# Altium footprint library Passive.PcbLib: 91 footprints (part 6 of 6)
Each footprint in its own frame and in the unit in brackets; x right, y up, seen from the top. Pads: shape width x height; smd on the part's side, far side on the other; paste and mask are expansions set on the pad; w line width, h text height; cw(c..) or ccw(c..) is an arc to the next point about the centre after c.
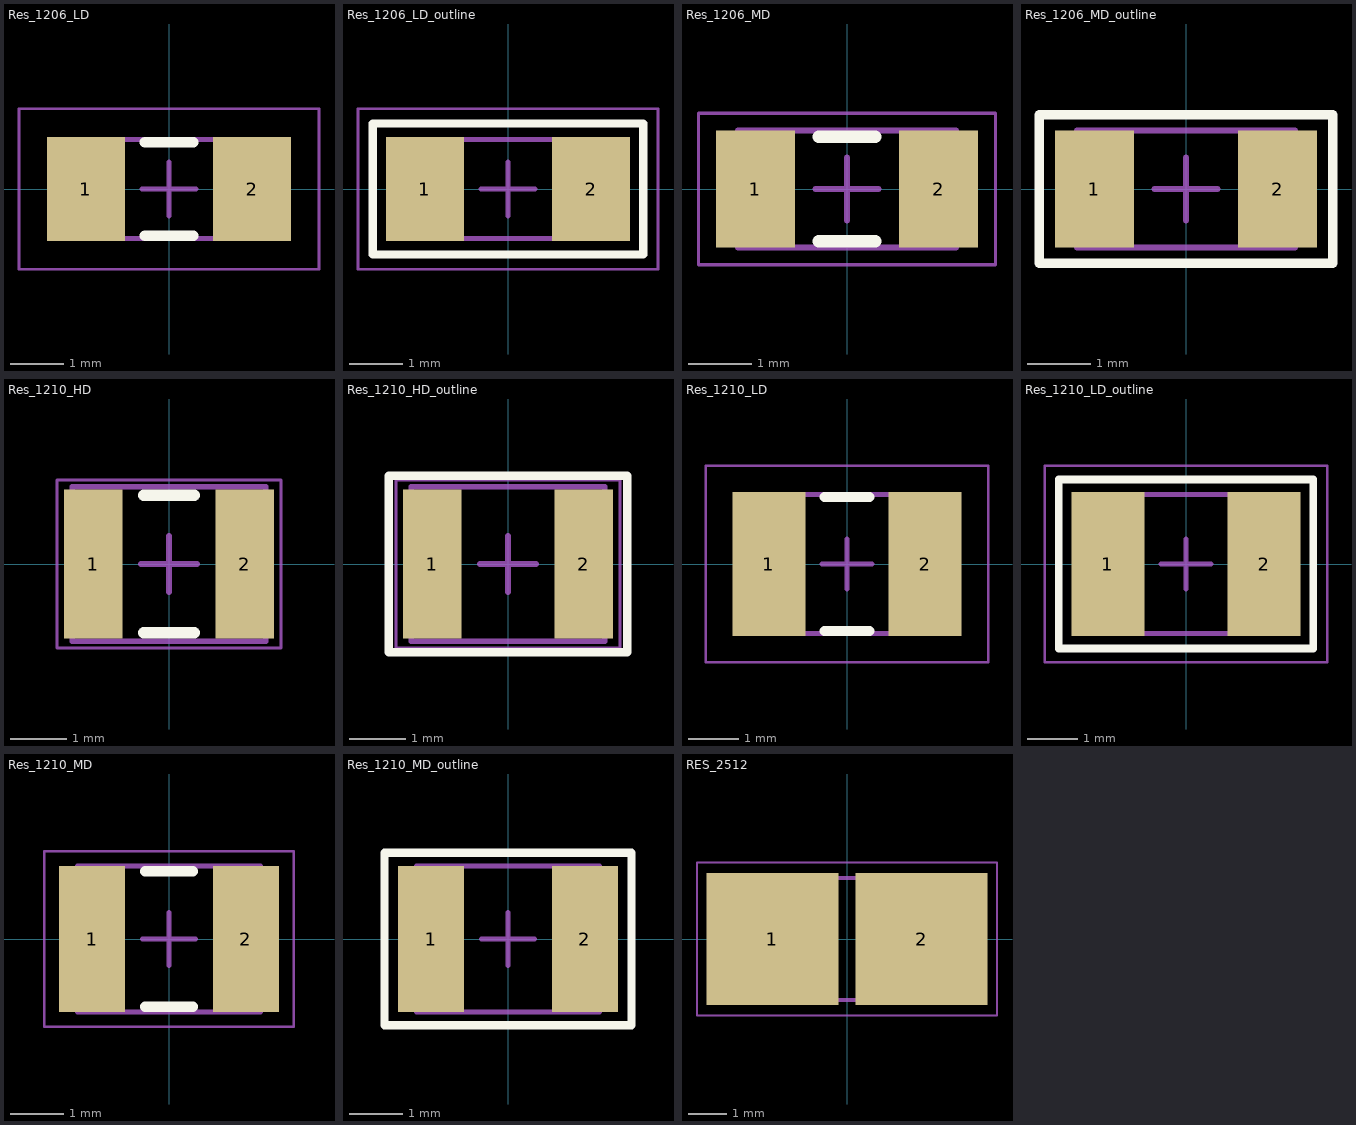
[diagram p5: the footprints below, top view; thin cyan lines are the x and y axes]

## Res_1206_LD [mm] "Chip Resistor, 1206, IPC Low Density"
height 0.6
pads (2):
  rect 1.45x1.95 smd: 1(-1.55,0) 2(1.55,0)
Top Overlay:
  lines w0.2: -0.45,-0.875 0.45,-0.875 ; -0.45,0.875 0.45,0.875
Mechanical 13:
  lines w0.1: -1.725,-0.925 1.725,-0.925 1.725,0.925 -1.725,0.925 -1.725,-0.925
Mechanical 15:
  lines w0.05: -2.8,-1.5 2.8,-1.5 2.8,1.5 -2.8,1.5 -2.8,-1.5
  lines w0.1: -0.5,0 0.5,0 ; 0,-0.5 0,0.5
3D body "RESC3216X06M.step": height 0.6, standoff 0, extent -1.725,-0.925 1.725,0.925

## Res_1206_LD_outline [mm] "Chip Resistor, 1206, IPC Low Density with outline"
height 0.6
pads (2):
  rect 1.45x1.95 smd: 1(-1.55,0) 2(1.55,0)
Top Overlay:
  lines w0.152: -2.525,-1.225 2.525,-1.225 2.525,1.225 -2.525,1.225 -2.525,-1.225
Mechanical 13:
  lines w0.1: -1.725,-0.925 1.725,-0.925 1.725,0.925 -1.725,0.925 -1.725,-0.925
Mechanical 15:
  lines w0.05: -2.8,-1.5 2.8,-1.5 2.8,1.5 -2.8,1.5 -2.8,-1.5
  lines w0.1: -0.5,0 0.5,0 ; 0,-0.5 0,0.5
3D body "RESC3216X06M.step": height 0.6, standoff 0, extent -1.725,-0.925 1.725,0.925

## Res_1206_MD [mm] "Chip Resistor, 1206, IPC Medium Density"
height 0.6
pads (2):
  rect 1.25x1.85 smd: 1(-1.45,0) 2(1.45,0)
Top Overlay:
  lines w0.2: -0.45,-0.825 0.45,-0.825 ; -0.45,0.825 0.45,0.825
Mechanical 13:
  lines w0.1: -1.725,-0.925 -1.725,0.925 1.725,0.925 1.725,-0.925 -1.725,-0.925
Mechanical 15:
  lines w0.05: -2.35,-1.2 -2.35,1.2 2.35,1.2 2.35,-1.2 -2.35,-1.2
  lines w0.1: -0.5,0 0.5,0 ; 0,-0.5 0,0.5
3D body "RESC3216X06N.step": height 0.6, standoff 0, extent -1.725,-0.925 1.725,0.925

## Res_1206_MD_outline [mm] "Chip Resistor, 1206, IPC Medium Density with outline"
height 0.6
pads (2):
  rect 1.25x1.85 smd: 1(-1.45,0) 2(1.45,0)
Top Overlay:
  lines w0.152: -2.325,-1.175 2.325,-1.175 2.325,1.175 -2.325,1.175 -2.325,-1.175
Mechanical 13:
  lines w0.1: -1.725,-0.925 -1.725,0.925 1.725,0.925 1.725,-0.925 -1.725,-0.925
Mechanical 15:
  lines w0.05: -2.35,-1.2 -2.35,1.2 2.35,1.2 2.35,-1.2 -2.35,-1.2
  lines w0.1: -0.5,0 0.5,0 ; 0,-0.5 0,0.5
3D body "RESC3216X06N.step": height 0.6, standoff 0, extent -1.725,-0.925 1.725,0.925

## Res_1210_HD [mm] "Chip Resistor, 1210, IPC High Density"
height 0.6
pads (2):
  rect 1.05x2.65 smd: 1(-1.35,0) 2(1.35,0)
Top Overlay:
  lines w0.2: -0.45,-1.225 0.45,-1.225 ; -0.45,1.225 0.45,1.225
Mechanical 13:
  lines w0.1: -1.725,-1.375 1.725,-1.375 1.725,1.375 -1.725,1.375 -1.725,-1.375
Mechanical 15:
  lines w0.05: -2,-1.5 2,-1.5 2,1.5 -2,1.5 -2,-1.5
  lines w0.1: -0.5,0 0.5,0 ; 0,-0.5 0,0.5
3D body "RESC3225X06L.step": height 0.6, standoff 0, extent -1.725,-1.375 1.725,1.375

## Res_1210_HD_outline [mm] "Chip Resistor, 1210, IPC High Density with outline"
height 0.6
pads (2):
  rect 1.05x2.65 smd: 1(-1.35,0) 2(1.35,0)
Top Overlay:
  lines w0.152: -2.125,-1.575 2.125,-1.575 2.125,1.575 -2.125,1.575 -2.125,-1.575
Mechanical 13:
  lines w0.1: -1.725,-1.375 -1.725,1.375 1.725,1.375 1.725,-1.375 -1.725,-1.375
Mechanical 15:
  lines w0.05: -2,-1.5 -2,1.5 2,1.5 2,-1.5 -2,-1.5
  lines w0.1: -0.5,0 0.5,0 ; 0,-0.5 0,0.5
3D body "RESC3225X06L.step": height 0.6, standoff 0, extent -1.725,-1.375 1.725,1.375

## Res_1210_LD [mm] "Chip Resistor, 1210, IPC Low Density"
height 0.6
pads (2):
  rect 1.45x2.85 smd: 1(-1.55,0) 2(1.55,0)
Top Overlay:
  lines w0.2: -0.45,-1.325 0.45,-1.325 ; -0.45,1.325 0.45,1.325
Mechanical 13:
  lines w0.1: -1.725,-1.375 1.725,-1.375 1.725,1.375 -1.725,1.375 -1.725,-1.375
Mechanical 15:
  lines w0.05: -2.8,-1.95 2.8,-1.95 2.8,1.95 -2.8,1.95 -2.8,-1.95
  lines w0.1: -0.5,0 0.5,0 ; 0,-0.5 0,0.5
3D body "RESC3225X06M.step": height 0.6, standoff 0, extent -1.725,-1.375 1.725,1.375

## Res_1210_LD_outline [mm] "Chip Resistor, 1210, IPC Low Density with outline"
height 0.6
pads (2):
  rect 1.45x2.85 smd: 1(-1.55,0) 2(1.55,0)
Top Overlay:
  lines w0.152: -2.525,-1.675 2.525,-1.675 2.525,1.675 -2.525,1.675 -2.525,-1.675
Mechanical 13:
  lines w0.1: -1.725,-1.375 1.725,-1.375 1.725,1.375 -1.725,1.375 -1.725,-1.375
Mechanical 15:
  lines w0.05: -2.8,-1.95 2.8,-1.95 2.8,1.95 -2.8,1.95 -2.8,-1.95
  lines w0.1: -0.5,0 0.5,0 ; 0,-0.5 0,0.5
3D body "RESC3225X06M.step": height 0.6, standoff 0, extent -1.725,-1.375 1.725,1.375

## Res_1210_MD [mm] "Chip Resistor, 1210, IPC Medium Density"
height 0.6
pads (2):
  rect 1.25x2.75 smd: 1(-1.45,0) 2(1.45,0)
Top Overlay:
  lines w0.2: -0.45,-1.275 0.45,-1.275 ; -0.45,1.275 0.45,1.275
Mechanical 13:
  lines w0.1: -1.725,-1.375 1.725,-1.375 1.725,1.375 -1.725,1.375 -1.725,-1.375
Mechanical 15:
  lines w0.05: -2.35,-1.65 2.35,-1.65 2.35,1.65 -2.35,1.65 -2.35,-1.65
  lines w0.1: -0.5,0 0.5,0 ; 0,-0.5 0,0.5
3D body "RESC3225X06N.step": height 0.6, standoff 0, extent -1.725,-1.375 1.725,1.375

## Res_1210_MD_outline [mm] "Chip Resistor, 1210, IPC Medium Density with outline"
height 0.6
pads (2):
  rect 1.25x2.75 smd: 1(-1.45,0) 2(1.45,0)
Top Overlay:
  lines w0.152: -2.325,-1.625 -2.325,1.625 2.325,1.625 2.325,-1.625 -2.325,-1.625
Mechanical 13:
  lines w0.1: -1.725,-1.375 -1.725,1.375 1.725,1.375 1.725,-1.375 -1.725,-1.375
Mechanical 15:
  lines w0.05: -2.35,-1.65 -2.35,1.65 2.35,1.65 2.35,-1.65 -2.35,-1.65
  lines w0.1: -0.5,0 0.5,0 ; 0,-0.5 0,0.5
3D body "RESC3225X06N.step": height 0.6, standoff 0, extent -1.725,-1.375 1.725,1.375

## RES_2512 [mm]
pads (2):
  rect 3.45x3.45 smd: 1(-1.95,0) 2(1.95,0)
Mechanical 13:
  lines w0.1: -3.2,-1.6 -3.2,1.6 3.2,1.6 3.2,-1.6 -3.2,-1.6
Mechanical 15:
  lines w0.05: -3.925,-2 -3.925,2 3.925,2 3.925,-2 -3.925,-2
3D body "GMR100HTBFQR047.stp": height 0.55, standoff 0, extent -3.2,-1.6 3.2,1.6